# EAGLE library part BMF055 (library CougsInSpace-Sensors)
9-DOF IMU BMF055 <https://github.com/CougsInSpace/Resources/blob/master/SupplierDocuments/Bosch/BMF055.pdf>
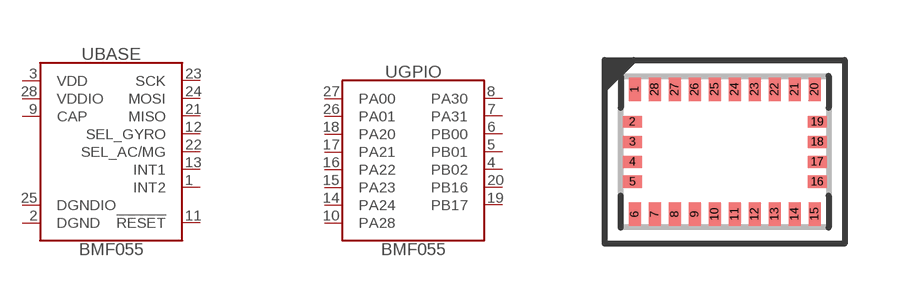
[diagram p0: symbol with the pads of LGA-28-4050; footprint LGA-28-4050]

Designator prefix U; gates BASE=BMF055_BASE GPIO=BMF055_GPIO

## BMF055 (SKU: 66-0001; VALUE: BMF055)  [LGA-28-4050]
1  BASE:INT2  out
2  BASE:DGND  pwr
3  BASE:VDD  pwr
4  GPIO:PB02
5  GPIO:PB01
6  GPIO:PB00
7  GPIO:PA31
8  GPIO:PA30
9  BASE:CAP  pas
10  GPIO:PA28
11  BASE:!RESET  in
12  BASE:SEL_GYRO  in
13  BASE:INT1  out
14  GPIO:PA24
15  GPIO:PA23
16  GPIO:PA22
17  GPIO:PA21
18  GPIO:PA20
19  GPIO:PB17
20  GPIO:PB16
21  BASE:MISO  out
22  BASE:SEL_AC/MG  in
23  BASE:SCK  in
24  BASE:MOSI  in
25  BASE:DGNDIO  pwr
26  GPIO:PA01
27  GPIO:PA00
28  BASE:VDDIO  pwr

## Footprint LGA-28-4050 (pad centres in mm)
Land Grid Array (LGA) - 28 Pins - 4.0 x 5.0 mm
smd 0.3 x 0.575: 1 -2.25,1.562; 6 -2.25,-1.562; 7 -1.75,-1.562; 8 -1.25,-1.562; 9 -0.75,-1.562; 10 -0.25,-1.562; 11 0.25,-1.562; 12 0.75,-1.562; 13 1.25,-1.562; 14 1.75,-1.562; 15 2.25,-1.562; 20 2.25,1.562; 21 1.75,1.562; 22 1.25,1.562; 23 0.75,1.562; 24 0.25,1.562; 25 -0.25,1.562; 26 -0.75,1.562; 27 -1.25,1.562; 28 -1.75,1.562
smd 0.475 x 0.3: 2 -2.312,0.75; 3 -2.312,0.25; 4 -2.312,-0.25; 5 -2.312,-0.75; 16 2.312,-0.75; 17 2.312,-0.25; 18 2.312,0.25; 19 2.312,0.75